# EAGLE library part EMD2_LENSMOUNT (library harrison)
EMD2 Chip
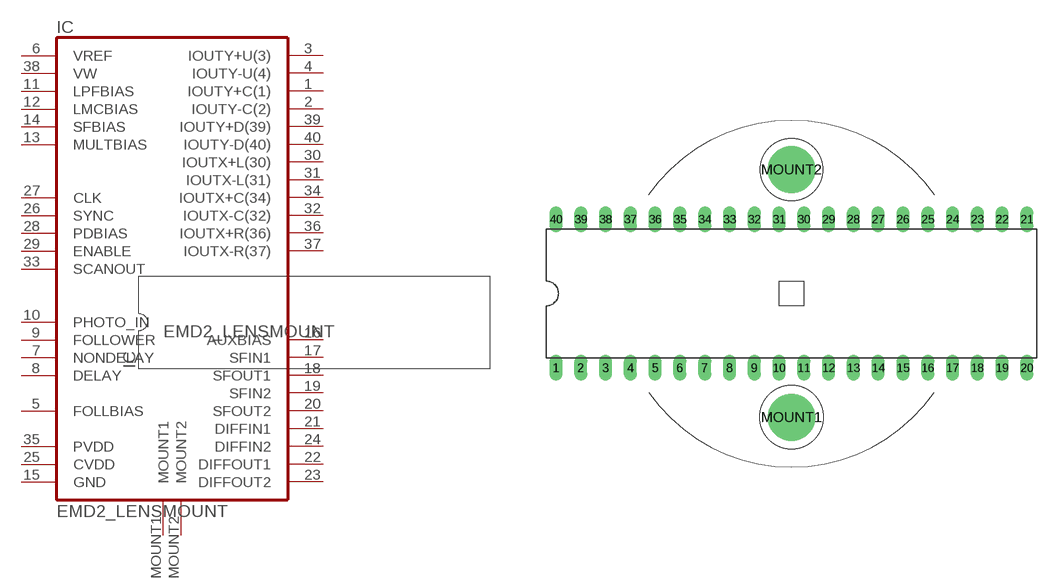
[diagram p1: symbol with the pads of DIL40_LENSMOUNT; footprint DIL40_LENSMOUNT]

Designator prefix IC

## EMD2_LENSMOUNT  [DIL40_LENSMOUNT]
1  IOUTY+C(1)  pas
2  IOUTY-C(2)  pas
3  IOUTY+U(3)  pas
4  IOUTY-U(4)  pas
5  FOLLBIAS  in
6  VREF  pas
7  NONDELAY  out
8  DELAY  out
9  FOLLOWER  out
10  PHOTO_IN  in
11  LPFBIAS  pas
12  LMCBIAS  pas
13  MULTBIAS  pas
14  SFBIAS  pas
15  GND  pwr
16  AUXBIAS  in
17  SFIN1  in
18  SFOUT1  out
19  SFIN2  in
20  SFOUT2  out
21  DIFFIN1  in
22  DIFFOUT1  pas
23  DIFFOUT2  pas
24  DIFFIN2  in
25  CVDD  pwr
26  SYNC  out
27  CLK  in
28  PDBIAS  in
29  ENABLE  in
30  IOUTX+L(30)  pas
31  IOUTX-L(31)  pas
32  IOUTX-C(32)  pas
33  SCANOUT  out
34  IOUTX+C(34)  pas
35  PVDD  pwr
36  IOUTX+R(36)  pas
37  IOUTX-R(37)  pas
38  VW  pas
39  IOUTY+D(39)  pas
40  IOUTY-D(40)  pas
MOUNT1  MOUNT1  pas
MOUNT2  MOUNT2  pas

## Footprint DIL40_LENSMOUNT (pad centres in mm)
drill 0.813 long: 1 -24.13,-7.62; 2 -21.59,-7.62; 3 -19.05,-7.62; 4 -16.51,-7.62; 5 -13.97,-7.62; 6 -11.43,-7.62; 7 -8.89,-7.62; 8 -6.35,-7.62; 9 -3.81,-7.62; 10 -1.27,-7.62; 11 1.27,-7.62; 12 3.81,-7.62; 13 6.35,-7.62; 14 8.89,-7.62; 15 11.43,-7.62; 16 13.97,-7.62; 17 16.51,-7.62; 18 19.05,-7.62; 19 21.59,-7.62; 20 24.13,-7.62; 21 24.13,7.62; 22 21.59,7.62; 23 19.05,7.62; 24 16.51,7.62; 25 13.97,7.62; 26 11.43,7.62; 27 8.89,7.62; 28 6.35,7.62; 29 3.81,7.62; 30 1.27,7.62; 31 -1.27,7.62; 32 -3.81,7.62; 33 -6.35,7.62; 34 -8.89,7.62; 35 -11.43,7.62; 36 -13.97,7.62; 37 -16.51,7.62; 38 -19.05,7.62; 39 -21.59,7.62; 40 -24.13,7.62
drill 3.81: MOUNT1 0,-12.7; MOUNT2 0,12.7